# Altium footprint library qudong.PcbLib: 29 footprints (part 2 of 2)
Each footprint in its own frame and in the unit in brackets; x right, y up, seen from the top. Pads: shape width x height; smd on the part's side, far side on the other; paste and mask are expansions set on the pad; w line width, h text height; cw(c..) or ccw(c..) is an arc to the next point about the centre after c.
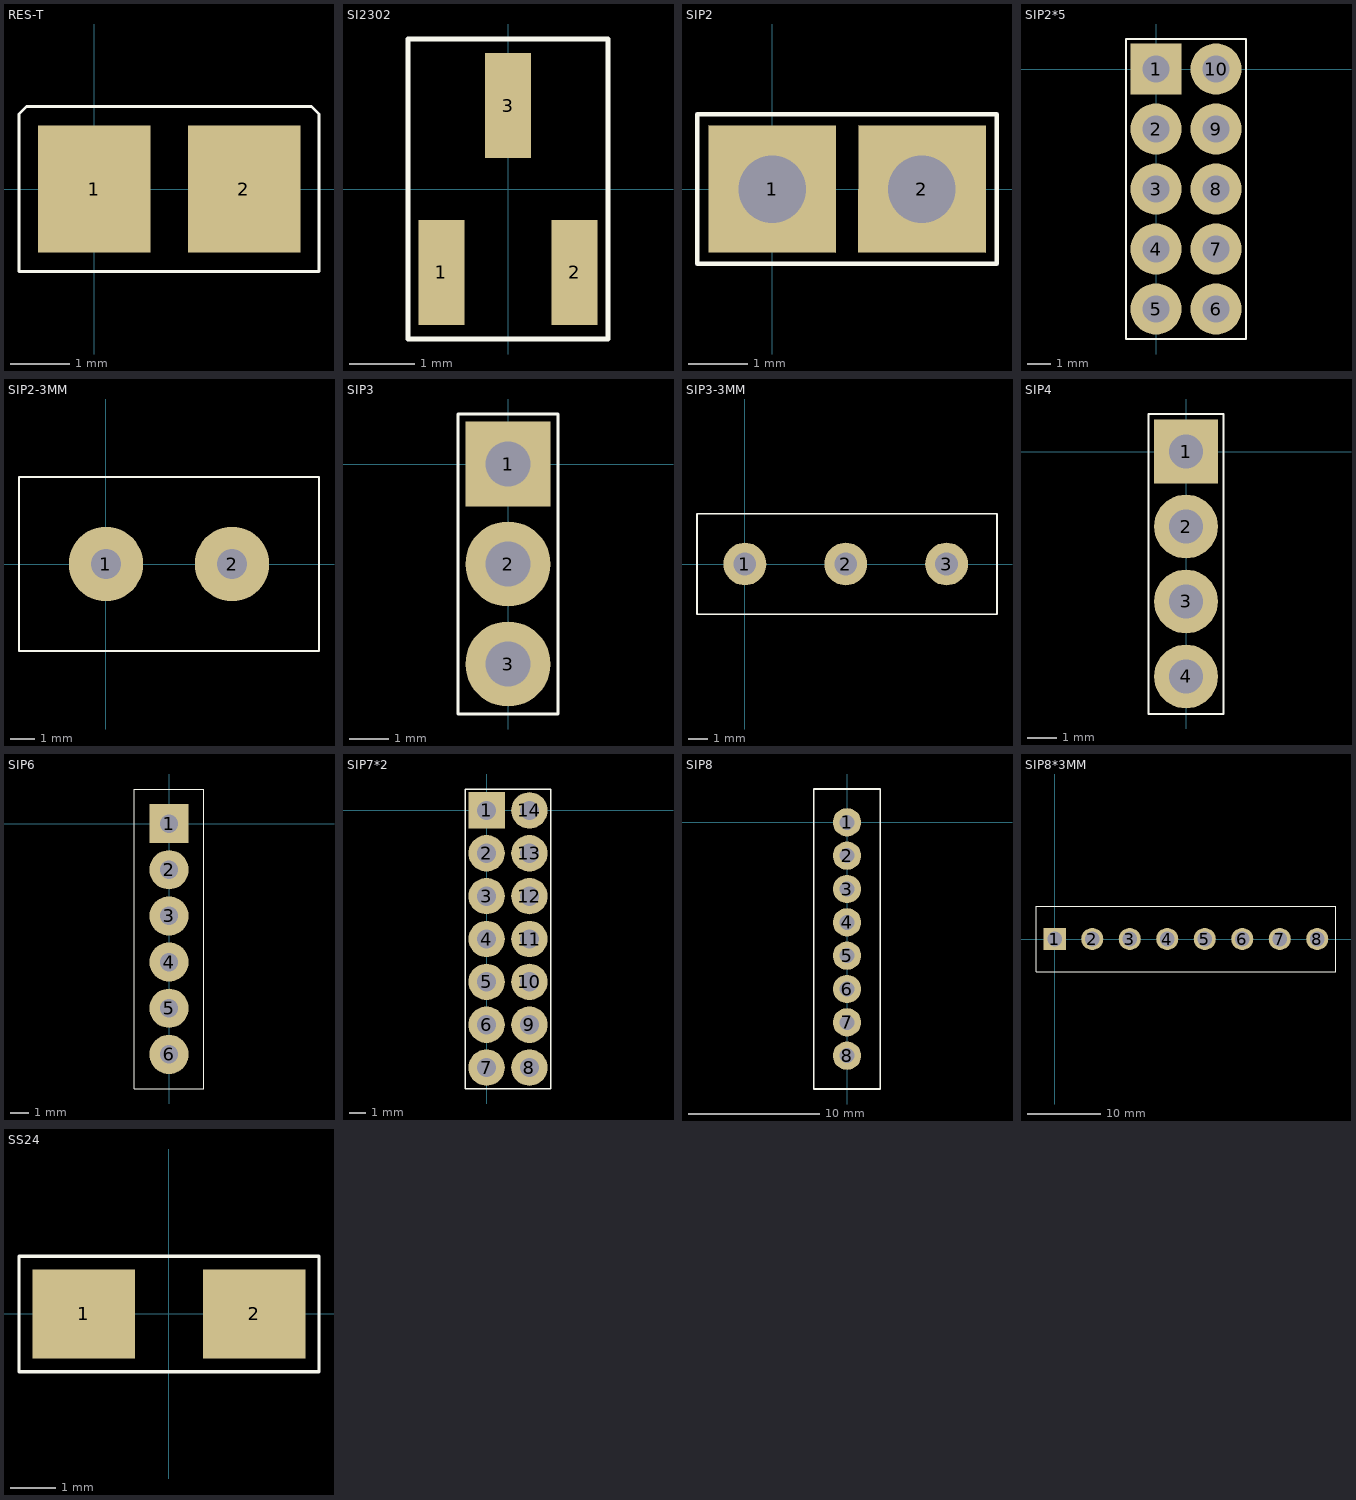
[diagram p1: the footprints below, top view; thin cyan lines are the x and y axes]

## RES-T [mil]
pads (2):
  rect 75x85 smd: 1(0,0) 2(100,0)
Top Overlay:
  lines w2: -50,-55 -50,-50 -50,50 -45,55 145,55 150,50 150,-50 150,-55 145,-55 -45,-55 -50,-55

## SI2302 [mm] "SOT23, 3-Leads, Body 3.0x2.6mm (max), Pitch 0.90mm, IPC Medium Density"
height 1.1
pads (3):
  rect 0.7x1.6 smd: 1(-1.016,-1.27) 2(1.016,-1.27) 3(0,1.27)
Top Overlay:
  lines w0.076: -1.524,-2.286 1.524,-2.286 1.524,2.286 -1.27,2.286 -1.524,2.286 -1.524,-2.286

## SIP2 [mil]
pads (2):
  rect 85x85 hole 45: 1(0,0) 2(100,0)
Top Overlay:
  lines w3: -50,-50 150,-50 150,50 -50,50 -50,-50

## SIP2*5 [mil]
pads (10):
  rect 85x85 hole 45: 1(0,0)
  round 85 hole 45: 2(0,-100) 3(0,-200) 4(0,-300) 5(0,-400) 6(100,-400) 7(100,-300) 8(100,-200) 9(100,-100) 10(100,0)
Top Overlay:
  lines w3: -50,-450 -50,50 150,50 150,-440 150,-450 -50,-450

## SIP2-3MM [mm]
pads (2):
  round 3 hole 1.2: 1(0,0) 2(5.08,0)
Top Overlay:
  lines w0.076: -3.505,-3.505 8.585,-3.505 8.585,3.505 -3.505,3.505 -3.505,-3.505

## SIP3 [mil]
pads (3):
  rect 85x85 hole 45: 1(0,0)
  round 85 hole 45: 2(0,-100) 3(0,-200)
Top Overlay:
  lines w3: -50,-250 50,-250 50,50 -50,50 -50,-250

## SIP3-3MM [mil]
pads (3):
  round 85 hole 45: 1(0,0) 2(200,0) 3(400,0)
Top Overlay:
  lines w3: -95,-100 500,-100 500,100 -50,100 -95,100 -95,95 -95,-100

## SIP4 [mil]
pads (4):
  rect 85x85 hole 45: 1(0,0)
  round 85 hole 45: 2(0,-100) 3(0,-200) 4(0,-300)
Top Overlay:
  lines w3: -50,-350 -50,50 50,50 50,-350 -50,-350

## SIP6 [mil]
pads (6):
  rect 85x85 hole 40: 1(0,0)
  round 85 hole 40: 2(0,-100) 3(0,-200) 4(0,-300) 5(0,-400) 6(0,-500)
Top Overlay:
  lines w2: -75,-575 75,-575 75,75 -75,75 -75,-575

## SIP7*2 [mil]
pads (14):
  rect 85x85 hole 45: 1(0,0)
  round 85 hole 45: 2(0,-100) 3(0,-200) 4(0,-300) 5(0,-400) 6(0,-500) 7(0,-600) 8(100,-600) 9(100,-500) 10(100,-400) 11(100,-300) 12(100,-200) 13(100,-100) 14(100,0)
Top Overlay:
  lines w3: -50,-650 -50,50 150,50 150,-650 -50,-650

## SIP8 [mil]
pads (8):
  round 85 hole 45: 1(0,0) 2(0,-100) 3(0,-200) 4(0,-300) 5(0,-400) 6(0,-500) 7(0,-600) 8(0,-700)
Top Overlay:
  lines w5: -100,-800 -100,100 100,100 100,-800 -100,-800

## SIP8*3MM [mm]
pads (8):
  rect 3x3 hole 2: 1(0,0)
  round 3 hole 2: 2(5.08,0) 3(10.16,0) 4(15.24,0) 5(20.32,0) 6(25.4,0) 7(30.48,0) 8(35.56,0)
Top Overlay:
  lines w0.076: -2.54,-4.445 38.1,-4.445 38.1,2.54 38.1,4.445 -2.54,4.445 -2.54,-4.445

## SS24 [mm] "Molded Capacitor, 2-Leads, Body 4.5x3.0mm, IPC Medium Density"
height 2
pads (2):
  rect 2.25x1.95 smd: 1(-1.875,0) 2(1.875,0)
Top Overlay:
  lines w0.076: -3.302,-1.27 3.302,-1.27 3.302,1.27 -3.302,1.27 -3.302,-1.27